# Altium footprint library Diode_On_Semiconductor_MBR0540T1G_eec_IPC_C.PcbLib: 1 footprints
Each footprint in its own frame and in the unit in brackets; x right, y up, seen from the top. Pads: shape width x height; smd on the part's side, far side on the other; paste and mask are expansions set on the pad; w line width, h text height; cw(c..) or ccw(c..) is an arc to the next point about the centre after c.
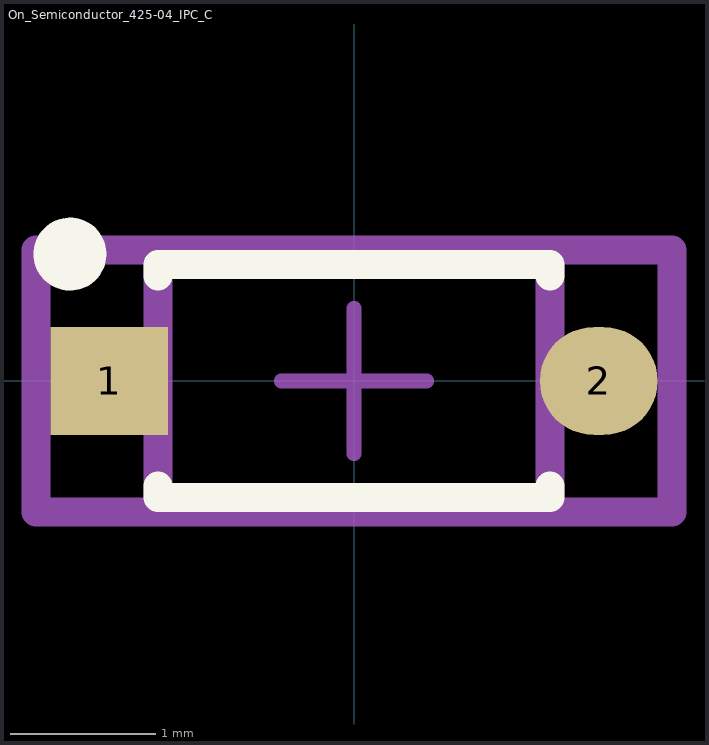
[diagram p0: the footprint, top view; thin cyan lines are the x and y axes]

## On_Semiconductor_425-04_IPC_C [mm]
pads (2):
  rect 0.808x0.742 smd paste+0 mask+0: 1(-1.68,0)
  rrect100% 0.808x0.742 smd paste+0 mask+0: 2(1.68,0)
Top Overlay:
  circle w0.25: c-1.949,0.871 r0.125
  lines w0.2: -1.345,-0.72 -1.345,-0.8 1.345,-0.8 1.345,-0.72 ; -1.345,0.72 -1.345,0.8 1.345,0.8 1.345,0.72
Mechanical 10:
  lines w0.2: -2.184,-0.9 2.184,-0.9 2.184,0.9 -2.184,0.9 -2.184,-0.9
  text ".Designator" at 0,0.188 h1
Mechanical 12:
  lines w0.2: -1.345,-0.8 1.345,-0.8 1.345,0.8 -1.345,0.8 -1.345,-0.8
Mechanical 15:
  lines w0.1: -0.5,0 0.5,0 ; 0,-0.5 0,0.5
  lines w0.2: -2.184,-0.9 2.184,-0.9 2.184,0.9 -2.184,0.9 -2.184,-0.9
3D body "Diode_On_Semiconductor_MBR0540T1G_eec.STEP": height 0.25, standoff 0, extent -2.184,-0.9 2.184,0.9